# EAGLE library part 5B254M (library wheat)
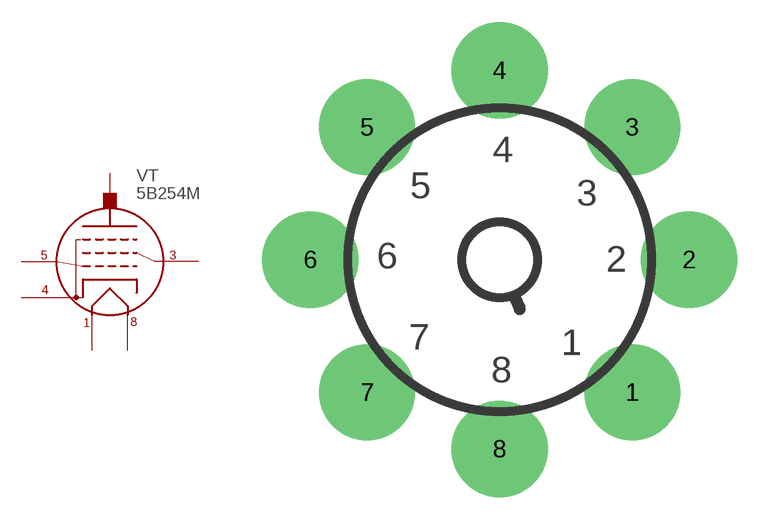
[diagram p155: symbol with the pads of OCTAL; footprint OCTAL]

Designator prefix VT

## 5B254M  [OCTAL]
1  1  pas
2  2  pas
3  3  pas
4  5  pas
5  8  pas
6  K  pas

## Footprint OCTAL (pad centres in mm)
OCTAL TUBE SOCKET, TOP MOUNT
drill 2.54 pad 6.452: 1 8.89,-8.89; 2 12.7,0; 3 8.89,8.89; 4 0,12.7; 5 -8.89,8.89; 6 -12.7,0; 7 -8.89,-8.89; 8 0,-12.7